# EAGLE library part TEENSY_3.X_PINOUT (library integrated_adc)
Teensy 3.X Footprint Designed to accept a teensy 3.0, 3.1, or 3.2. It can also serve as headers/pinout to replace a teensy.
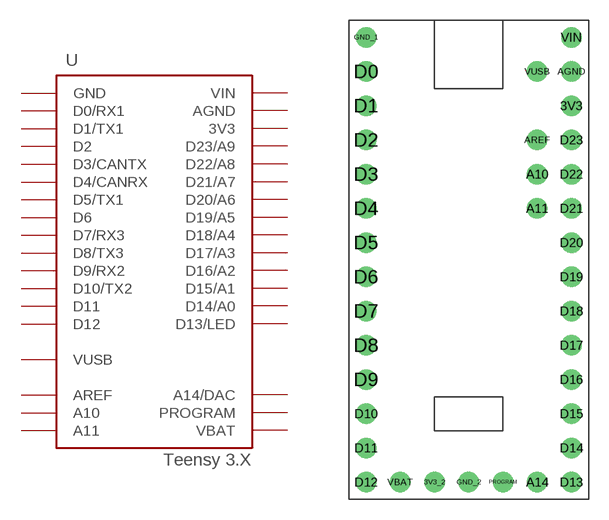
[diagram p3: symbol with the pads of TEENSY_3.X_PINOUT; footprint TEENSY_3.X_PINOUT]

Designator prefix U

## TEENSY_3.X_PINOUT  [TEENSY_3.X_PINOUT]
3V3  3V3  pwr
3V3_2  3V3  pwr
A10  A10
A11  A11
A14  A14/DAC
AGND  AGND  pwr
AREF  AREF  in
D0  D0/RX1
D1  D1/TX1
D2  D2
D3  D3/CANTX
D4  D4/CANRX
D5  D5/TX1
D6  D6
D7  D7/RX3
D8  D8/TX3
D9  D9/RX2
D10  D10/TX2
D11  D11
D12  D12
D13  D13/LED
D14  D14/A0
D15  D15/A1
D16  D16/A2
D17  D17/A3
D18  D18/A4
D19  D19/A5
D20  D20/A6
D21  D21/A7
D22  D22/A8
D23  D23/A9
GND_1  GND  pwr
GND_2  GND  pwr
PROGRAM  PROGRAM  in
VBAT  VBAT  in
VIN  VIN  pwr
VUSB  VUSB  pwr

## Footprint TEENSY_3.X_PINOUT (pad centres in mm)
Teensy 3.X Footprint Does what it says on the tin.
drill 1.016: 3V3 0,-5.08; 3V3_2 -10.16,-33.02; A10 -2.54,-10.16; A11 -2.54,-12.7; A14 -2.54,-33.02; AGND 0,-2.54; AREF -2.54,-7.62; D0 -15.24,-2.54; D1 -15.24,-5.08; D2 -15.24,-7.62; D3 -15.24,-10.16; D4 -15.24,-12.7; D5 -15.24,-15.24; D6 -15.24,-17.78; D7 -15.24,-20.32; D8 -15.24,-22.86; D9 -15.24,-25.4; D10 -15.24,-27.94; D11 -15.24,-30.48; D12 -15.24,-33.02; D13 0,-33.02; D14 0,-30.48; D15 0,-27.94; D16 0,-25.4; D17 0,-22.86; D18 0,-20.32; D19 0,-17.78; D20 0,-15.24; D21 0,-12.7; D22 0,-10.16; D23 0,-7.62; GND_1 -15.24,0; GND_2 -7.62,-33.02; PROGRAM -5.08,-33.02; VBAT -12.7,-33.02; VIN 0,0; VUSB -2.54,-2.54